# Altium footprint library project.PcbLib: 18 footprints (part 1 of 2)
Each footprint in its own frame and in the unit in brackets; x right, y up, seen from the top. Pads: shape width x height; smd on the part's side, far side on the other; paste and mask are expansions set on the pad; w line width, h text height; cw(c..) or ccw(c..) is an arc to the next point about the centre after c.
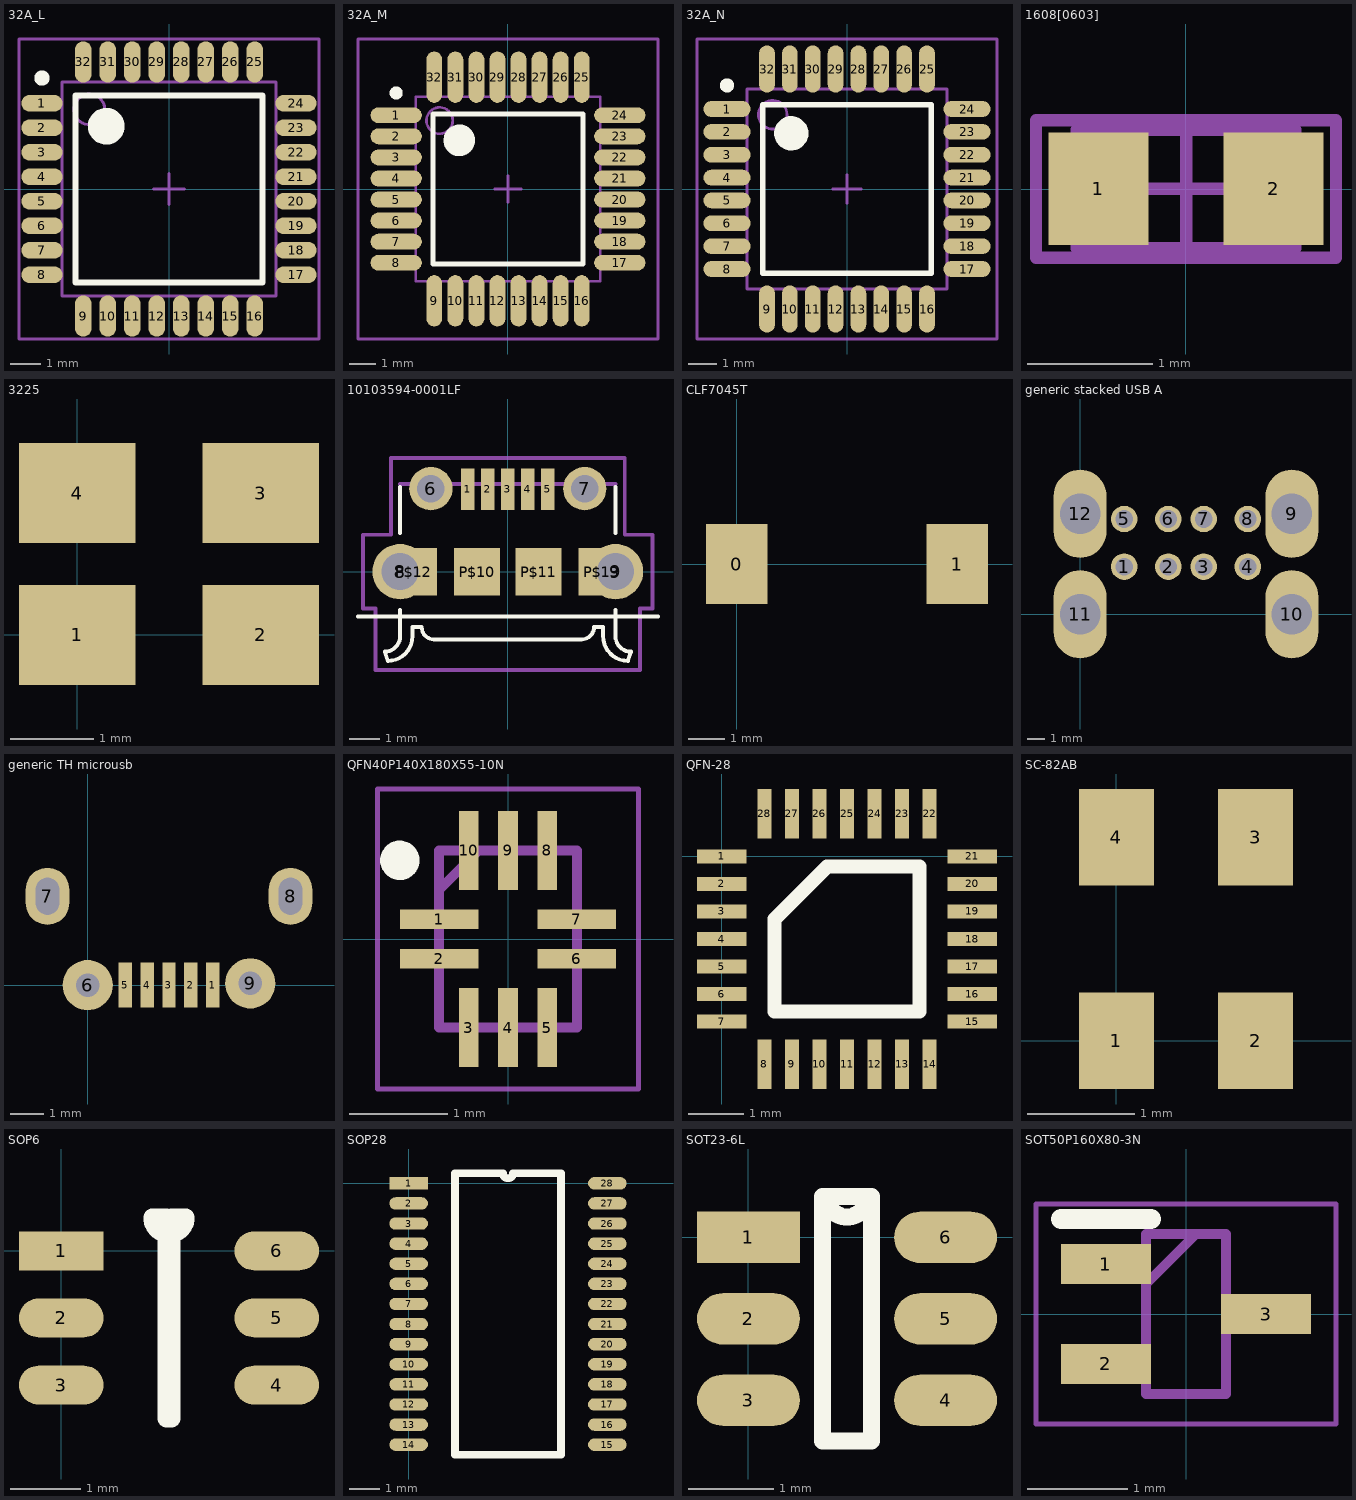
[diagram p0: the footprints below, top view; thin cyan lines are the x and y axes]

## 32A_L [mm] "Thin QFP, 32-Leads, Body 7x7mm, Pitch 0.8mm, IPC High Density"
height 1.2
pads (32):
  oval 1.35x0.55 smd: 1(-4.15,2.8) 2(-4.15,2) 3(-4.15,1.2) 4(-4.15,0.4) 5(-4.15,-0.4) 6(-4.15,-1.2) 7(-4.15,-2) 8(-4.15,-2.8) 17(4.15,-2.8) 18(4.15,-2) 19(4.15,-1.2) 20(4.15,-0.4) 21(4.15,0.4) 22(4.15,1.2) 23(4.15,2) 24(4.15,2.8)
  oval 0.55x1.35 smd: 9(-2.8,-4.15) 10(-2,-4.15) 11(-1.2,-4.15) 12(-0.4,-4.15) 13(0.4,-4.15) 14(1.2,-4.15) 15(2,-4.15) 16(2.8,-4.15) 25(2.8,4.15) 26(2,4.15) 27(1.2,4.15) 28(0.4,4.15) 29(-0.4,4.15) 30(-1.2,4.15) 31(-2,4.15) 32(-2.8,4.15)
Top Overlay:
  circle w0.6: c-2.05,2.05 r0.3
  circle w0.25: c-4.15,3.625 r0.125
  lines w0.2: -3.05,-3.05 3.05,-3.05 3.05,3.05 -3.05,3.05 -3.05,-3.05
Mechanical 13:
  circle w0.1: c-2.6,2.6 r0.5
  lines w0.1: -3.5,-3.5 3.5,-3.5 3.5,3.5 -3.5,3.5 -3.5,-3.5
Mechanical 15:
  lines w0.1: -0.5,0 0.5,0 ; 0,-0.5 0,0.5 ; -4.9,-4.9 4.9,-4.9 4.9,4.9 -4.9,4.9 -4.9,-4.9
3D body: height 1.2, standoff 0, extent -3.5,-3.5 3.5,3.5

## 32A_M [mm] "Thin QFP, 32-Leads, Body 7x7mm, Pitch 0.8mm, IPC Low Density"
height 1.2
pads (32):
  oval 1.95x0.6 smd: 1(-4.25,2.8) 2(-4.25,2) 3(-4.25,1.2) 4(-4.25,0.4) 5(-4.25,-0.4) 6(-4.25,-1.2) 7(-4.25,-2) 8(-4.25,-2.8) 17(4.25,-2.8) 18(4.25,-2) 19(4.25,-1.2) 20(4.25,-0.4) 21(4.25,0.4) 22(4.25,1.2) 23(4.25,2) 24(4.25,2.8)
  oval 0.6x1.95 smd: 9(-2.8,-4.25) 10(-2,-4.25) 11(-1.2,-4.25) 12(-0.4,-4.25) 13(0.4,-4.25) 14(1.2,-4.25) 15(2,-4.25) 16(2.8,-4.25) 25(2.8,4.25) 26(2,4.25) 27(1.2,4.25) 28(0.4,4.25) 29(-0.4,4.25) 30(-1.2,4.25) 31(-2,4.25) 32(-2.8,4.25)
Top Overlay:
  circle w0.25: c-4.25,3.65 r0.125
  circle w0.6: c-1.85,1.85 r0.3
  lines w0.2: -2.85,-2.85 -2.85,2.85 2.85,2.85 2.85,-2.85 -2.85,-2.85
Mechanical 13:
  circle w0.1: c-2.6,2.6 r0.5
  lines w0.1: -3.5,-3.5 -3.5,3.5 3.5,3.5 3.5,-3.5 -3.5,-3.5
Mechanical 15:
  lines w0.1: -0.5,0 0.5,0 ; 0,-0.5 0,0.5 ; -5.7,-5.7 -5.7,5.7 5.7,5.7 5.7,-5.7 -5.7,-5.7
3D body: height 1.2, standoff 0, extent -3.5,-3.5 3.5,3.5

## 32A_N [mm] "Thin QFP, 32-Leads, Body 7x7mm, Pitch 0.8mm, IPC Medium Density"
height 1.2
pads (32):
  oval 1.65x0.55 smd: 1(-4.2,2.8) 2(-4.2,2) 3(-4.2,1.2) 4(-4.2,0.4) 5(-4.2,-0.4) 6(-4.2,-1.2) 7(-4.2,-2) 8(-4.2,-2.8) 17(4.2,-2.8) 18(4.2,-2) 19(4.2,-1.2) 20(4.2,-0.4) 21(4.2,0.4) 22(4.2,1.2) 23(4.2,2) 24(4.2,2.8)
  oval 0.55x1.65 smd: 9(-2.8,-4.2) 10(-2,-4.2) 11(-1.2,-4.2) 12(-0.4,-4.2) 13(0.4,-4.2) 14(1.2,-4.2) 15(2,-4.2) 16(2.8,-4.2) 25(2.8,4.2) 26(2,4.2) 27(1.2,4.2) 28(0.4,4.2) 29(-0.4,4.2) 30(-1.2,4.2) 31(-2,4.2) 32(-2.8,4.2)
Top Overlay:
  circle w0.6: c-1.95,1.95 r0.3
  circle w0.25: c-4.2,3.625 r0.125
  lines w0.2: -2.95,-2.95 2.95,-2.95 2.95,2.95 -2.95,2.95 -2.95,-2.95
Mechanical 13:
  circle w0.1: c-2.6,2.6 r0.5
  lines w0.1: -3.5,-3.5 3.5,-3.5 3.5,3.5 -3.5,3.5 -3.5,-3.5
Mechanical 15:
  lines w0.1: -0.5,0 0.5,0 ; 0,-0.5 0,0.5 ; -5.25,-5.25 5.25,-5.25 5.25,5.25 -5.25,5.25 -5.25,-5.25
3D body: height 1.2, standoff 0, extent -3.5,-3.5 3.5,3.5

## 1608[0603] [mm] "Chip Capacitor, Body 1.6x0.8mm, IPC High Density"
height 1.3
pads (2):
  rect 0.8x0.9 smd: 1(-0.7,0) 2(0.7,0)
Mechanical 13:
  lines w0.1: -0.875,-0.475 0.875,-0.475 0.875,0.475 -0.875,0.475 -0.875,-0.475
Mechanical 15:
  lines w0.1: -0.475,0 0.475,0 ; 0,-0.475 0,0.475 ; -1.2,-0.55 1.2,-0.55 1.2,0.55 -1.2,0.55 -1.2,-0.55
3D body: height 1.3, standoff 0, extent -0.875,-0.475 0.875,0.475

## 3225 [mm] "3225 4P SMD crystal layout"
pads (4):
  rect 1.4x1.2 smd: 1(0,0) 2(2.2,0) 3(2.2,1.7) 4(0,1.7)

## 10103594-0001LF [mm] "Amphenol FCI Right Angle SMT Type B Version 2.0 Micro USB Connector Socket, 100 V ac, 1.8A"
pads (13):
  rect 0.45x1.35 smd: 1(-1.3,2.675) 2(-0.65,2.675) 3(0,2.675) 4(0.65,2.675) 5(1.3,2.675)
  round 1.408 hole 0.9: 6(-2.5,2.7) 7(2.5,2.7)
  round 1.8 hole 1.2: 8(-3.5,0) 9(3.5,0)
  rect 1.5x1.55 smd: P$10(-1,0) P$11(1,0) P$12(-3.05,0) P$13(3.05,0)
Top Overlay:
  lines w0.127: -4.869,-1.45 4.881,-1.45 ; -3.5,-2.15 -3.5,-2.1 ; -3.5,-1.25 -3.5,-2.1 ; -3.5,1.25 -3.5,2.75 ; 2.2,-2.2 2.4,-2.2 ccw(c2.4,-1.8) 2.8,-1.8 3.1,-1.8 3.1,-2.1 ccw(c3.9,-2.1) 3.9,-2.9 4,-2.6 cw(c4,-2.1) 3.5,-2.1 ; 2.3,-2.2 -2.4,-2.2 cw(c-2.4,-1.8) -2.8,-1.8 -3.1,-1.8 -3.1,-2.1 cw(c-3.9,-2.1) -3.9,-2.9 -4,-2.6 ccw(c-4,-2.1) -3.5,-2.1 ; 3.5,1.25 3.5,2.75 ; 3.5,-2.1 3.5,-1.25 3.5,-2.15 3.5,-2.1
Mechanical 1:
  lines w0.127: -3.5,2.85 3.5,2.85 ; -2.5,3.7 3.8,3.7 3.8,1.2 4.7,1.2 4.7,-1.2 4.3,-1.2 4.3,-3.2 -4.3,-3.2 -4.3,-1.2 -4.7,-1.2 -4.7,1.2 -3.8,1.2 -3.8,3.7 -1.8,3.7

## CLF7045T [mm]
pads (2):
  rect 1.7x2.2 smd: 0(0,0) 1(6.1,0)

## generic stacked USB A [mm]
pads (12):
  round 1.5 hole 1: 1(2.5,2.7) 2(5,2.7) 3(7,2.7) 4(9.5,2.7) 5(2.5,5.4) 6(5,5.4) 7(7,5.4) 8(9.5,5.4)
  oval 3x5 hole 2.3: 9(12,5.7) 10(12,0) 11(0,0) 12(0,5.7)

## generic TH microusb [mm] "https://detail.tmall.com/item.htm?id=41230755573"
pads (9):
  rect 0.4x1.35 smd: 1(3.725,0) 2(3.075,0) 3(2.425,0) 4(1.775,0) 5(1.125,0)
  round 1.5 hole 0.7 unplated: 6(0,0) 9(4.85,0.05)
  oval 1.3x1.7 hole 0.7 slot 1.1 at 90 deg: 7(-1.2,2.65) 8(6.05,2.65)

## QFN40P140X180X55-10N [mm]
pads (10):
  rect 0.8x0.2 smd: 1(-0.7,0.2) 2(-0.7,-0.2) 6(0.7,-0.2) 7(0.7,0.2)
  rect 0.2x0.8 smd: 3(-0.4,-0.9) 4(0,-0.9) 5(0.4,-0.9) 8(0.4,0.9) 9(0,0.9) 10(-0.4,0.9)
Top Overlay:
  circle w0.2: c-1.1,0.8 r0.1
Mechanical 15:
  lines w0.1: -0.7,0.5 -0.3,0.9 ; -0.7,-0.9 -0.7,0.9 0.7,0.9 0.7,-0.9 -0.7,-0.9
Mechanical 20:
  lines w0.05: -1.325,-1.525 -1.325,1.525 1.325,1.525 1.325,-1.525 -1.325,-1.525

## QFN-28 [mm]
pads (28):
  rect 0.9x0.25 smd: 1(0,0) 2(0,-0.5) 3(0,-1) 4(0,-1.5) 5(0,-2) 6(0,-2.5) 7(0,-3) 15(4.55,-3) 16(4.55,-2.5) 17(4.55,-2) 18(4.55,-1.5) 19(4.55,-1) 20(4.55,-0.5) 21(4.55,0)
  rect 0.25x0.9 smd: 8(0.775,-3.775) 9(1.275,-3.775) 10(1.775,-3.775) 11(2.275,-3.775) 12(2.775,-3.775) 13(3.275,-3.775) 14(3.775,-3.775) 22(3.775,0.775) 23(3.275,0.775) 24(2.775,0.775) 25(2.275,0.775) 26(1.775,0.775) 27(1.275,0.775) 28(0.775,0.775)
Top Overlay:
  lines w0.254: 0.958,-2.817 3.592,-2.817 3.592,-0.183 1.916,-0.183 0.958,-1.141 0.958,-2.817

## SC-82AB [mm]
pads (4):
  rect 0.7x0.9 smd: 1(0,0) 2(1.3,0) 3(1.3,1.9) 4(0,1.9)
Top Overlay:
  text "." at 0.1,0.75 h1.02

## SOP6 [mm]
pads (6):
  rect 1.2x0.55 smd: 1(0,0)
  oval 1.2x0.55 smd: 2(0,-0.95) 3(0,-1.9) 4(3.05,-1.9) 5(3.05,-0.95) 6(3.05,0)
Top Overlay:
  lines w0.254: 1.287,0.475 ccw(c1.525,0.475) 1.762,0.475 1.561,0.475 1.561,-2.375 1.489,-2.375 1.489,0.475 1.287,0.475

## SOP28 [mil]
pads (28):
  rect 50x16 smd: 1(0,0)
  oval 50x16 smd: 2(0,-26) 3(0,-52) 4(0,-78) 5(0,-104) 6(0,-130) 7(0,-156) 8(0,-182) 9(0,-208) 10(0,-234) 11(0,-260) 12(0,-286) 13(0,-312) 14(0,-338) 15(257,-338) 16(257,-312) 17(257,-286) 18(257,-260) 19(257,-234) 20(257,-208) 21(257,-182) 22(257,-156) 23(257,-130) 24(257,-104) 25(257,-78) 26(257,-52) 27(257,-26) 28(257,0)
Top Overlay:
  lines w10: 60,-351 197,-351 197,13 135,13 cw(c128.5,13) 122,13 60,13 60,-351

## SOT23-6L [mm]
pads (6):
  rect 1.2x0.6 smd: 1(0,0)
  oval 1.2x0.6 smd: 2(0,-0.95) 3(0,-1.9) 4(2.3,-1.9) 5(2.3,-0.95) 6(2.3,0)
Top Overlay:
  lines w0.2: 0.865,-2.375 1.435,-2.375 1.435,0.475 0.913,0.475 ccw(c1.15,0.475) 1.388,0.475 0.865,0.475 0.865,-2.375

## SOT50P160X80-3N [mm]
pads (3):
  rect 0.9x0.4 smd: 1(-0.8,0.5) 2(-0.8,-0.5) 3(0.8,0)
Top Overlay:
  lines w0.2: -1.25,0.95 -0.35,0.95
Mechanical 15:
  lines w0.1: -0.4,0.3 0.1,0.8 ; -0.4,-0.8 0.4,-0.8 0.4,0.8 -0.4,0.8 -0.4,-0.8
Mechanical 20:
  lines w0.05: -1.5,-1.1 1.5,-1.1 1.5,1.1 -1.5,1.1 -1.5,-1.1